# EAGLE library part ADAFRUIT_ITSY_M0_28 (library easy_bee_counter)
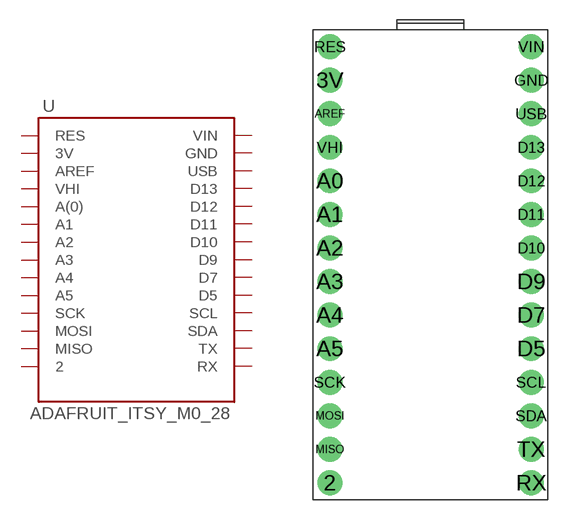
[diagram p5: symbol with the pads of ADAFRUIT_ITS_MO_28; footprint ADAFRUIT_ITS_MO_28]

Designator prefix -

## ADAFRUIT_ITSY_M0_28  [ADAFRUIT_ITS_MO_28]
2  2
3V  3V
A0  A(0)
A1  A1
A2  A2
A3  A3
A4  A4
A5  A5
AREF  AREF
D5  D5
D7  D7
D9  D9
D10  D10
D11  D11
D12  D12
D13  D13
GND  GND
MISO  MISO
MOSI  MOSI
RES  RES
RX  RX
SCK  SCK
SCL  SCL
SDA  SDA
TX  TX
USB  USB
VHI  VHI
VIN  VIN

## Footprint ADAFRUIT_ITS_MO_28 (pad centres in mm)
drill 1.016 pad 1.88: 2 -7.62,-8.89; 3V -7.62,21.59; A0 -7.62,13.97; A1 -7.62,11.43; A2 -7.62,8.89; A3 -7.62,6.35; A4 -7.62,3.81; A5 -7.62,1.27; AREF -7.62,19.05; D5 7.62,1.27; D7 7.62,3.81; D9 7.62,6.35; D10 7.62,8.89; D11 7.62,11.43; D12 7.62,13.97; D13 7.62,16.51; GND 7.62,21.59; MISO -7.62,-6.35; MOSI -7.62,-3.81; RES -7.62,24.13; RX 7.62,-8.89; SCK -7.62,-1.27; SCL 7.62,-1.27; SDA 7.62,-3.81; TX 7.62,-6.35; USB 7.62,19.05; VHI -7.62,16.51; VIN 7.62,24.13